# Altium footprint library USB-B TE Connectivity 292304-1.PcbLib: 1 footprints
Each footprint in its own frame and in the unit in brackets; x right, y up, seen from the top. Pads: shape width x height; smd on the part's side, far side on the other; paste and mask are expansions set on the pad; w line width, h text height; cw(c..) or ccw(c..) is an arc to the next point about the centre after c.
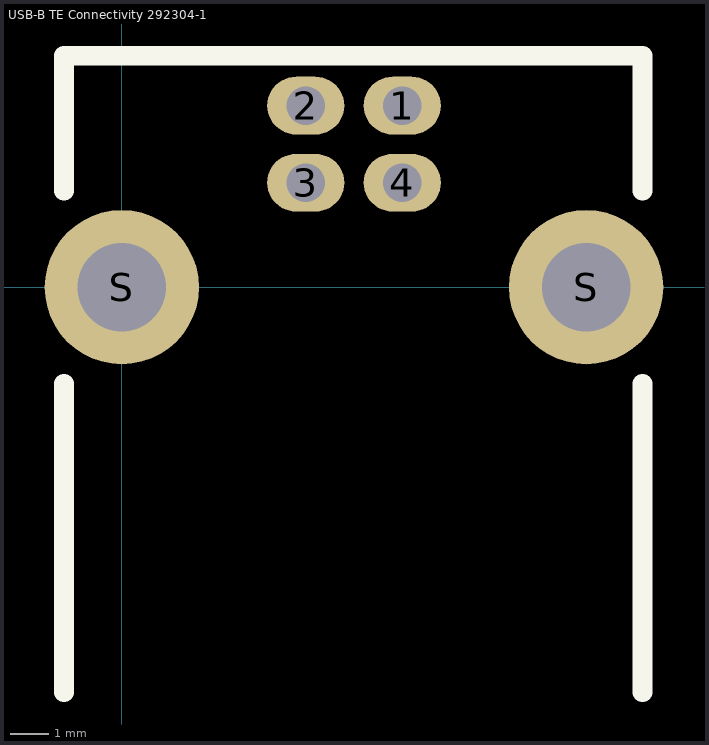
[diagram p0: the footprint, top view; thin cyan lines are the x and y axes]

## USB-B TE Connectivity 292304-1 [mm]
pads (6):
  oval 2x1.5 hole 1: 1(7.27,4.71) 2(4.77,4.71) 3(4.77,2.71) 4(7.27,2.71)
  round 4 hole 2.3: S(0,0) S(12.04,0)
Top Overlay:
  lines w0.508: -1.5,-10.5 -1.5,-2.5 ; -1.5,2.5 -1.5,6 13.5,6 13.5,2.5 ; 13.5,-10.5 13.5,-2.5
3D body "usb-b .x_t": height 10.65, standoff -3.14, extent -1.051,-10.3 13.262,5.8
3D body: height 2.76, standoff -0.81, extent -2.54,-3.81 -2.54,-3.81